# Altium schematic symbol library Crystals.SchLib: 3 symbols
Pins are listed as number, name and electrical type; pins without a type are passive.

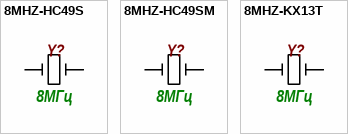
[diagram p0: symbols 8MHZ-HC49S to 8MHZ-KX13T]

## 8MHZ-HC49S
designator Y?  value 8МГц
8МГц, HC-49S; ValueManufacturer: Geyer Electronic; ValueManufacturerPartNumber: KX-3HT; ValueType: Кварцевый резонатор
pins: 1, 2

## 8MHZ-HC49SM
designator Y?  value 8МГц
8МГц, HC-49SM; ValueManufacturer: Geyer Electronic; ValueManufacturerPartNumber: KX-KT; ValueType: Кварцевый резонатор
pins: 1, 2

## 8MHZ-KX13T
designator Y?  value 8МГц
8МГц, KX-13T; ValueManufacturer: Geyer Electronic; ValueType: Кварцевый резонатор; ValueManufacturerPartNumber: KX-13T
pins: 1, 2